# Altium footprint library TSOP18XX.PcbLib: 1 footprints
Each footprint in its own frame and in the unit in brackets; x right, y up, seen from the top. Pads: shape width x height; smd on the part's side, far side on the other; paste and mask are expansions set on the pad; w line width, h text height; cw(c..) or ccw(c..) is an arc to the next point about the centre after c.
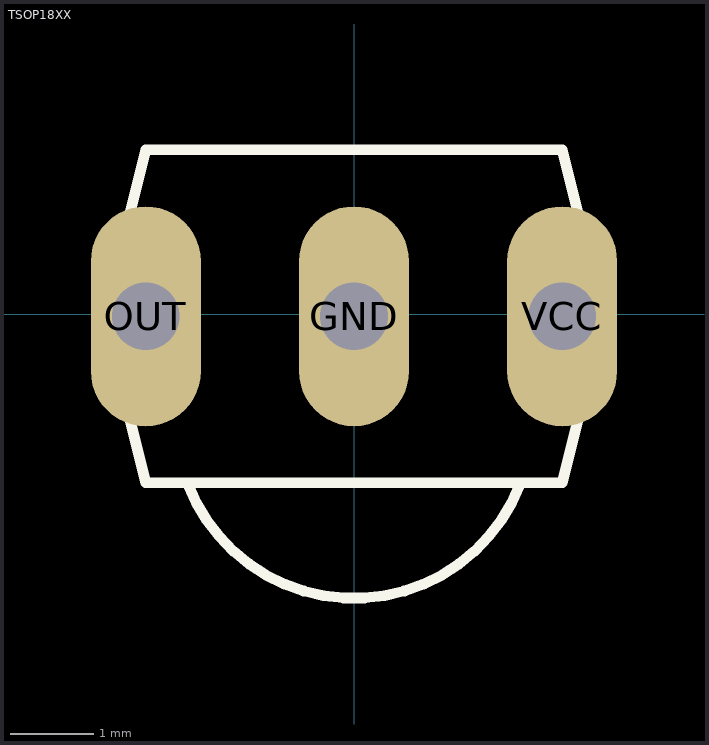
[diagram p0: the footprint, top view; thin cyan lines are the x and y axes]

## TSOP18XX [mil]
pads (3):
  oval 52x104 hole 32: GND(-0.05,-1.05) OUT(-98.47,-1.05) VCC(98.38,-1.05)
Top Overlay:
  lines w5: -78.56,-80.4 ccw(c-0.05,-50.26) 78.46,-80.4 ; -118.16,-1.05 -98.47,-79.79 -78.79,-79.79 78.69,-79.79 98.38,-79.79 118.06,-1.05 98.38,77.69 -98.47,77.69 -118.16,-1.05
3D body "TSOP1838--3DModel-STEP-510211.STEP": height 333.54, standoff -886.93, extent -118.15,-159.9 118.07,59.98